# Altium schematic symbol library protoboard.SchLib: 4 symbols
Pins are listed as number, name and electrical type; pins without a type are passive.

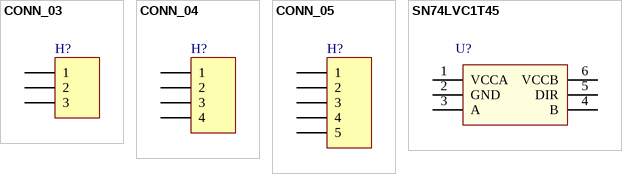
[diagram p0: symbols CONN_03 to SN74LVC1T45]

## CONN_03
designator H?
CONN HEADER 3POS 2.54mm VERT_Thru Hole
signal-integrity model Connector
footprint 1X03
pins: 1, 2, 3

## CONN_04
designator H?
CONN HEADER 4POS 2.54mm VERT_Thru Hole
signal-integrity model Connector
footprint 1X04
footprint 1X04 square (1x04 100mil-pitch header with 50mil square pads)
footprint 1X04 hex (1x04 100mil-pitch header with 64mil hex pads)
pins: 1, 2, 3, 4

## CONN_05
designator H?
CONN HEADER 5POS 2.54mm VERT_Thru Hole
signal-integrity model Connector
footprint 1X05
footprint 1X05 small
footprint 1X05 hex
footprint 1X05 square (1x05 100mil-pitch header with 50mil square pads)
pins: 1, 2, 3, 4, 5

## SN74LVC1T45
designator U?  (value not drawn)
IC TRNSLTR BIDIRECTIONAL SOT23-6; Detailed Description: Voltage Level Translator Bidirectional 1 Circuit 1 Channel 420Mbps SOT-23-6
footprint SOT23-6_N (SOT23, 6-Leads, Body 2.9x1.6mm, Pitch 0.95mm, Lead Span 2.7mm, IPC Medium Density)
pins: 1 VCCA, 2 GND, 3 A, 4 B, 5 DIR, 6 VCCB